# Altium schematic symbol library majestic_LibAltium.SchLib: 368 symbols (part 3 of 3)
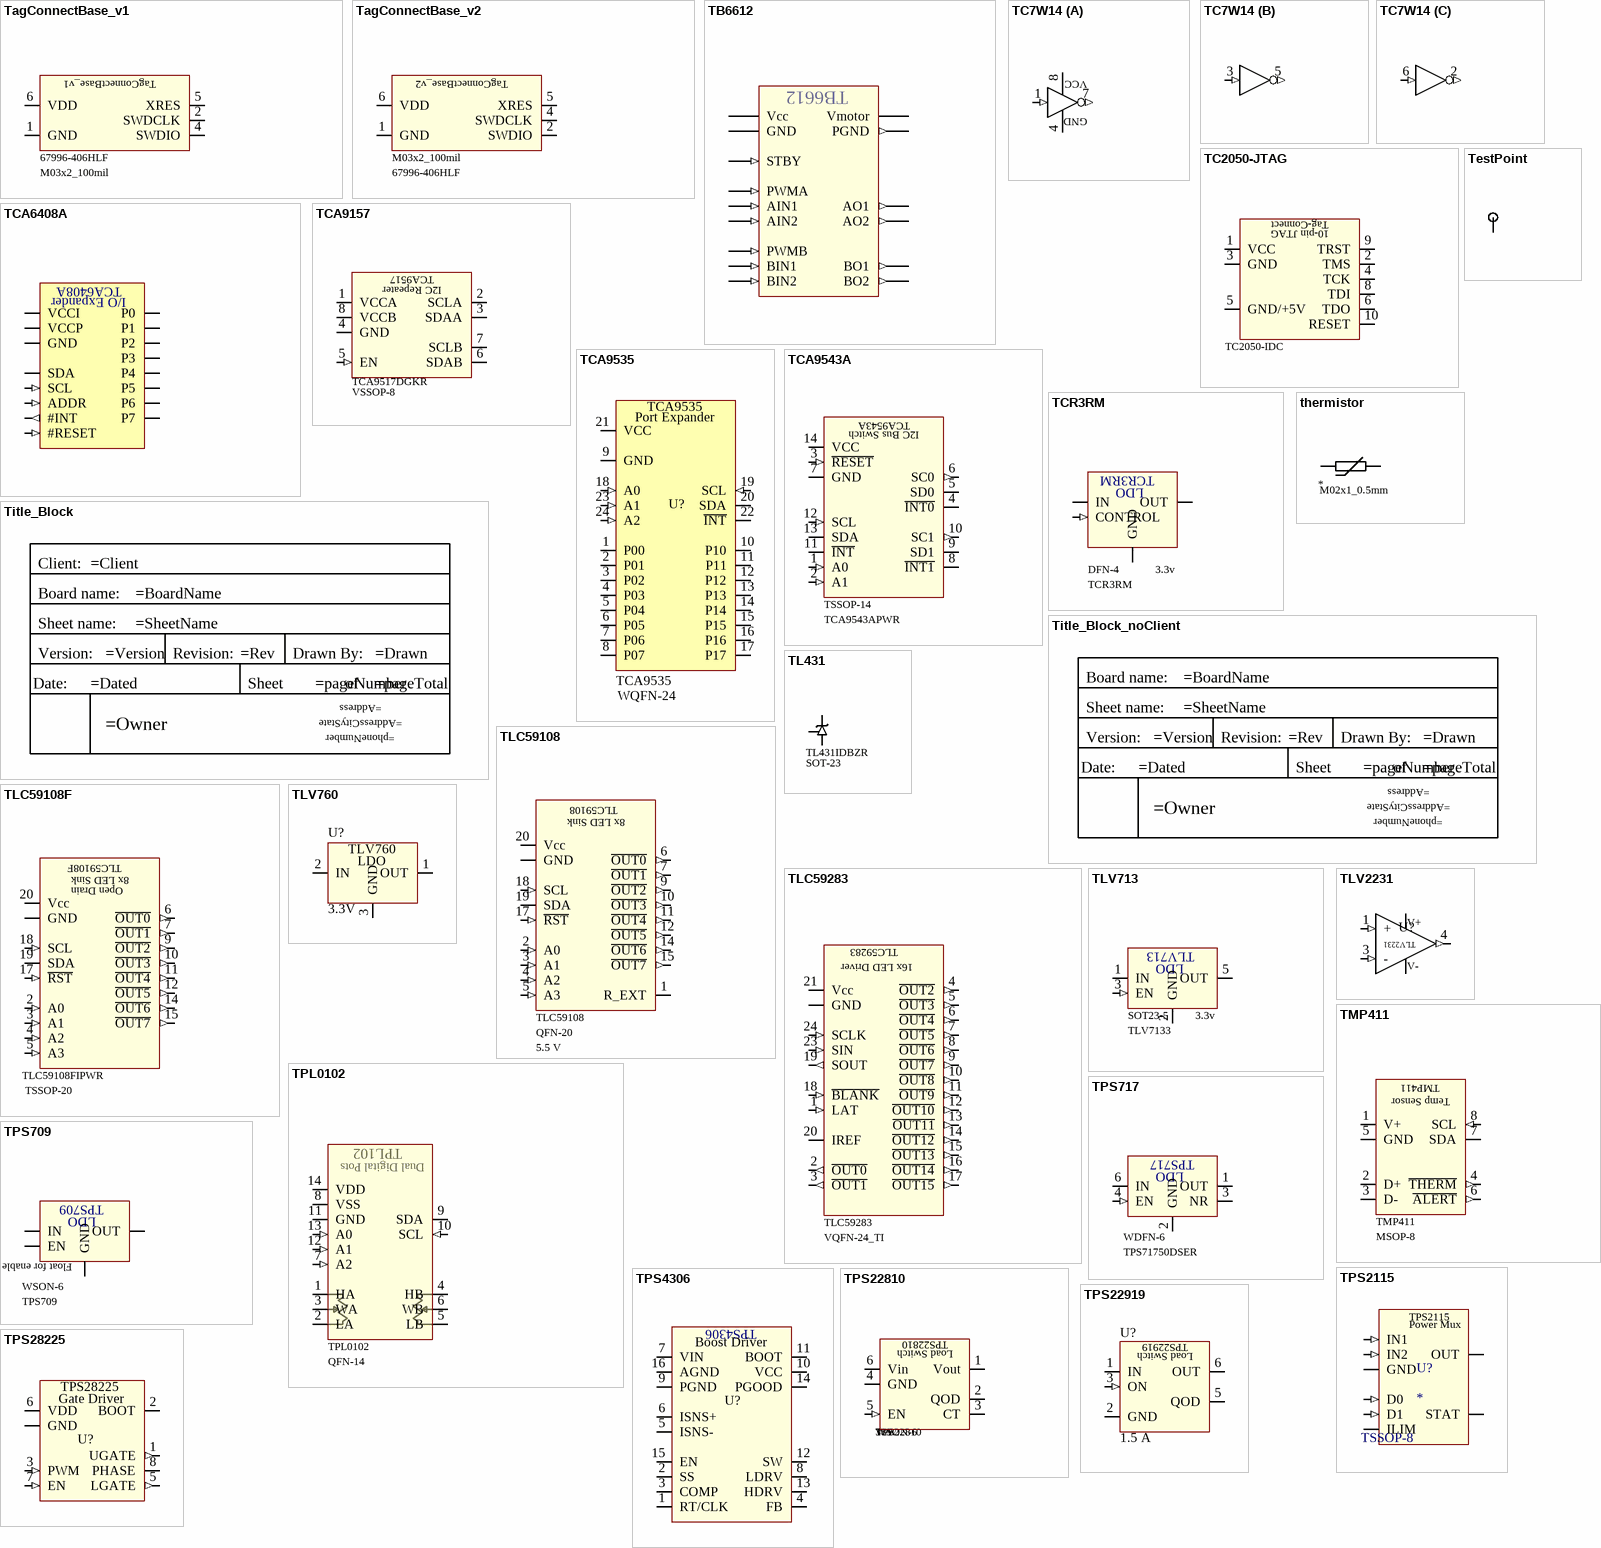
[diagram p15: symbols TagConnectBase_v1 to TPS28225]

## TPL0102
designator U?  PartNumber: TPL0102
Dual Digital Potentiometer
footprint QFN-14
pins: 1 HA, 2 LA, 3 WA, 4 HB, 5 LB, 6 WB, 7 A2 (in), 8 VSS (power), 9 SDA (io), 10 SCL (in), 11 GND, 12 A1 (in), 13 A0 (in), 14 VDD (power)
text: TPL102; Dual Digital Pots

## TPS709
designator u?  partNumber: TPS709
+5v LDO, 30v in; Vout: 5v; Imax: 150 mA; Vmax: 30v
footprint WSON-6
pins: 0 DAP (power), 1 OUT (power), 3 GND (power), 4 EN, 6 IN (power)
text: LDO; Float for enable

## TPS717
designator U?  PartNumber: TPS71750DSER
5.0v Linear Regulator
footprint WDFN-6
pins: 1 OUT (power), 2 GND (power), 3 NR, 4 EN (in), 6 IN (power)
text: LDO

## TPS2115
designator U?
Autoswitching power mux; PartNumber: TPS2115A
footprint TSSOP-8
pins: 1 STAT, 2 D0 (in), 3 D1 (in), 4 ILIM, 5 GND (power), 6 IN2 (in), 7 OUT (power), 8 IN1 (in)
text: Power Mux

## TPS4306
designator U?  (value not drawn)
Synchronous Boost DC-DC Controller; Voltage Rating: 4.5V ~ 38V; partNumber: *; roomCode: *
footprint WFQFN-16
pins: 0 GND, 1 RT/CLK, 2 SS, 3 COMP, 4 FB, 5 ISNS-, 6 ISNS+, 7 VIN, 8 LDRV, 9 PGND, 10 VCC, 11 BOOT, 12 SW, 13 HDRV, 14 PGOOD, 15 EN, 16 AGND
text: Boost Driver

## TPS22810
designator U?  Voltage Rating: 18 V  partNumber: TPS22810  Current Rating: 3 A
Load Switch, high side; Value: *
footprint WSON-6
pins: 0 DAP (power), 1 Vout (power), 2 QOD, 3 CT, 4 GND (power), 5 EN (in), 6 Vin (power)
text: Load Switch

## TPS22919
designator U?  Current Rating: 1.5 A  (hidden comment: *)
High Side Load Switch; partNumber: TPS22919DCKR; Voltage Rating: 5.5 V; roomCode: *
footprint SOT-363
pins: 1 IN (power), 2 GND (power), 3 ON (in), 5 QOD, 6 OUT (power)
text: Load Switch

## TPS28225
designator U?  (value not drawn)
Gate Driver; partNumber: TPS28225DRBR; Voltage Rating: 8.5 V; Current Rating: 4 A; roomCode: *
footprint VSON-8_3x3
pins: 0 EPAD (power), 1 UGATE (out), 2 BOOT, 3 PWM (in), 4 GND (power), 5 LGATE (out), 6 VDD (power), 7 EN (in), 8 PHASE

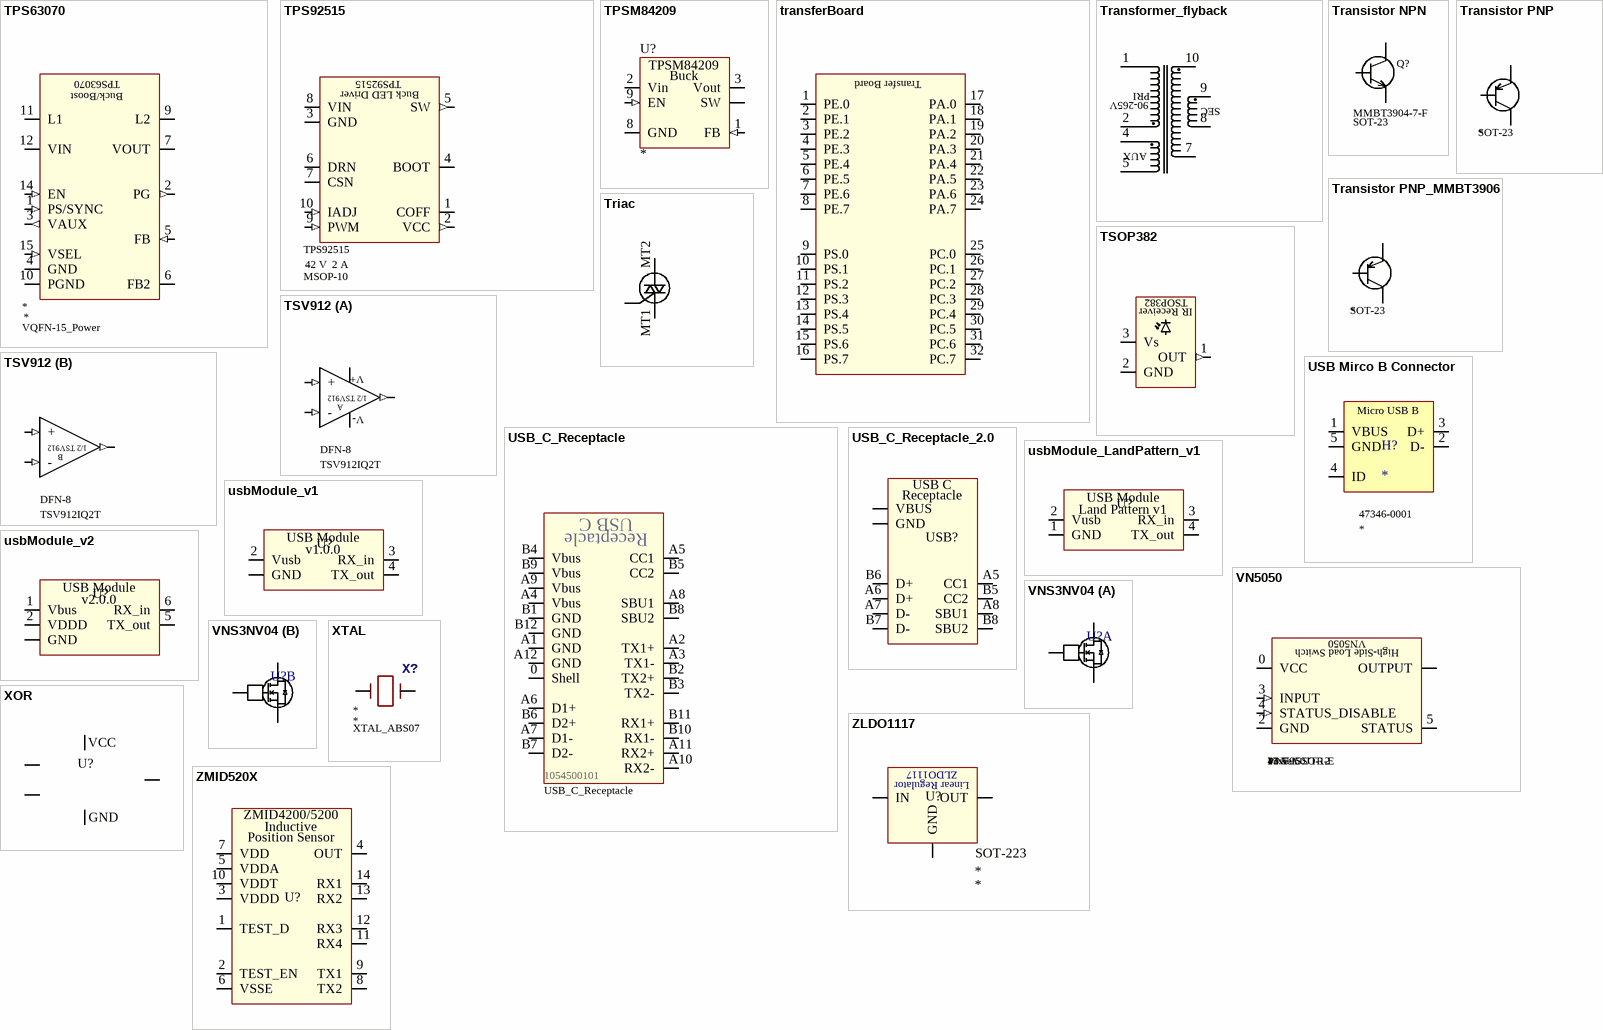
[diagram p13: symbols TPS63070 to ZMID520X]

## TPS63070
designator U?
Buck-Boost; Current Rating: 2A; Voltage Rating: 16V; partNumber: *; Value: *
footprint VQFN-15_Power
pins: 1 PS/SYNC (in), 2 PG (out), 3 VAUX (out), 4 GND (power), 5 FB (in), 6 FB2, 7 VOUT (power), 9 L2 (power), 10 PGND (power), 11 L1 (power), 12 VIN (power), 14 EN (in), 15 VSEL (in)
text: Buck/Boost

## TPS92515
designator U?  Voltage Rating: 42 V  Current Rating: 2 A  partNumber: TPS92515
Buck LED Driver; Value: *
footprint MSOP-10
pins: 0 Thermal (power), 1 COFF, 2 VCC (out), 3 GND (power), 4 BOOT, 5 SW (out), 6 DRN, 7 CSN, 8 VIN (power), 9 PWM (in), 10 IADJ (in)

## TPSM84209
designator U?
Power Module; partNumber: TPSM84209; Voltage Rating: 4.5 - 28 V; Current Rating: 2.5 A; roomCode: *; Value: *
footprint QFN-9_TPSM84209
pins: 1 FB (in), 2 Vin (power), 3 Vout (power), 4 SW (power), 5 SW (power), 8 GND (power), 9 EN (in)
text: Buck

## transferBoard
designator T?
MICA Transfer Board; Current Rating: *; partNumber: *; Voltage Rating: *
footprint transferBoard
pins: 1 PE.0 (power), 2 PE.1 (power), 3 PE.2 (power), 4 PE.3 (power), 5 PE.4 (power), 6 PE.5 (power), 7 PE.6 (power), 8 PE.7 (power), 9 PS.0 (power), 10 PS.1 (power), 11 PS.2 (power), 12 PS.3 (power), 13 PS.4 (power), 14 PS.5 (power), 15 PS.6 (power), 16 PS.7 (power), 17 PA.0 (power), 18 PA.1 (power), 19 PA.2 (power), 20 PA.3 (power), 21 PA.4 (power), 22 PA.5 (power), 23 PA.6 (power), 24 PA.7 (power), 25 PC.0 (power), 26 PC.1 (power), 27 PC.2 (power), 28 PC.3 (power), 29 PC.4 (power), 30 PC.5 (power), 31 PC.6 (power), 32 PC.7 (power)
text: Transfer Board

## Transformer_flyback
designator T?, comment Transformer
footprint TRANSFORMER_FLYBACK_750813
pins: 1, 2, 4, 5, 7, 8, 9, 10
text: PRI; 90-265V; SEC; AUX

## Transistor NPN
designator Q?  partNumber: MMBT3904-7-F
Bipolar Junction Transistor; Voltage Rating: 40 V; Current Rating: 200 mA
footprint SOT-23; pin to pad B>1 C>3 E>2
pins: B Base, C Collector, E Emitter

## Transistor PNP
designator Q?
Bipolar Juntion Transistor; Voltage Rating: *; Current Rating: *; partNumber: *
footprint SOT-23; pin to pad B>2 C>3 E>1
pins: B Base, C Collector, E Emitter

## Transistor PNP_MMBT3906
designator Q?
Bipolar Juntion Transistor; Voltage Rating: *; Current Rating: *; partNumber: *
footprint SOT-23; pin to pad B>1 C>3 E>2
pins: B Base, C Collector, E Emitter

## Triac
designator T?
footprint TO-220; pin to pad G>3 MT1>1 MT2>2
footprint D2PAK; pin to pad G>3 MT1>1 MT2>2
pins: G Gate, MT1, MT2

## TSOP382
designator U?
IR Receiver Module; partNumber: TSOP382; Value: 940 nm
pins: 1 OUT (out), 2 GND (power), 3 Vs (power)
text: IR Receiver

## TSV912
designator U?  PartNumber: TSV912IQ2T
Op-amp  Dual, Rail to Rail; Voltage Rating: 6 V; Current Rating: 35 mA; GBP: 8 MHz; Vmin: 2.5 V
footprint DFN-8
part A pins: 1 Out1 (out), 2 - (in), 3 + (in), 4 V- (power), 8 V+ (power), 9 PAD (power)
part B pins: 5 + (in), 6 - (in), 7 Out2 (out)
part A text: 1/2 TSV912; A
part B text: 1/2 TSV912; B

## USB Mirco B Connector
designator H?
Micro USB; Current Rating: *; partNumber: *
footprint 47346-0001
footprint USB_Micro_B_Throughhole
footprint usbMicro_10118193-0001LF
pins: 1 VBUS (power), 2 D- (io), 3 D+ (io), 4 ID, 5 GND (power)
text: Micro USB B

## USB_C_Receptacle
designator USB?  PartNumber: 1054500101
Type C reversible connector; Room Code: *; Voltage Rating: *; Current Rating: *
footprint USB_C_Receptacle
footprint USB_C_MOLEX_RECEPTACLE (Part no. 1054500101)
pins: 0 Shell, A1 GND (power), A2 TX1+ (io), A3 TX1- (io), A4 Vbus (power), A5 CC1 (power), A6 D1+ (io), A7 D1- (io), A8 SBU1 (io), A9 Vbus (power), A10 RX2- (io), A11 RX2+ (io), A12 GND (power), B1 GND (power), B2 TX2+ (io), B3 TX2- (io), B4 Vbus (power), B5 CC2 (power), B6 D2+ (io), B7 D2- (io), B8 SBU2 (io), B9 Vbus (power), B10 RX1- (io), B11 RX1+ (io), B12 GND (power)
text: USB C; Receptacle

## USB_C_Receptacle_2.0
designator USB?  (value not drawn)
USB 2.0 Type C Connector; partNumber: 2130830005; Voltage Rating: 30V; Current Rating: 5A; roomCode: *
footprint USBC_2130830005
footprint USB_C_USB4151-GF-C (Part no. 1054500101)
footprint USB_C_DX07S024
footprint USB_C_12402056E512A
pins: 0 CASE, A1 GND, A4 VBUS, A5 CC1, A6 D+, A7 D-, A8 SBU1, A9 VBUS, A12 GND, B1 GND, B4 VBUS, B5 CC2, B6 D+, B7 D-, B8 SBU2, B9 VBUS, B12 GND
text: USB C; Receptacle

## usbModule_LandPattern_v1
designator U?  (value not drawn)  (no BOM)
Land Pattern for USB-C, Serial bridge, and power filter; partNumber: *; Voltage Rating: *; Current Rating: *; roomCode: *
footprint usbModule_LandPattern_v1
pins: 1 GND (power), 2 Vusb (power), 3 RX_in (power), 4 TX_out (power)
text: USB Module; Land Pattern v1

## usbModule_v1
designator U?  (value not drawn)
USB-C, filter, diode, and serial port; partNumber: *; Voltage Rating: *; Current Rating: *; roomCode: *
footprint usbModule_v1
pins: 0 GND, 1 GND (power), 2 Vusb (power), 3 RX_in (power), 4 TX_out (power)
text: USB Module; v1.0.0

## usbModule_v2
designator U?  (value not drawn)
USB-C, filter, diode, and serial port; partNumber: *; Voltage Rating: *; Current Rating: *; roomCode: *
footprint USBMODULE_V2
pins: 1 Vbus (power), 2 VDDD (power), 3 GND (power), 4 GND, 5 TX_out (power), 6 RX_in (power)
text: USB Module; v2.0.0

## VN5050
designator U?  Voltage Rating: 41 V  partNumber: VN5050JTR-E  Current Rating: 13.5 A
Load Switch - High Side
footprint PowerSSO-12
pins: 0 VCC (power), 2 GND (power), 3 INPUT (in), 4 STATUS_DISABLE (in), 5 STATUS (oc), 8 OUTPUT (power), 9 OUTPUT (power), 10 OUTPUT (power), 11 OUTPUT (power)
text: High-Side Load Switch

## VNS3NV04
designator U?  (value not drawn)
Protected MOSFET; partNumber: VNS3NV04DPTR-E; Voltage Rating: 40 V; Current Rating: 3.5 A; roomCode: *
footprint SOIC-8; pin to pad D1A>7 D1B>8 D2A>5 D2B>6 G1>2 G2>4 S1>1 S2>3
part A pins: D1A D, D1B D, G1 G, S1 S (power)
part B pins: D2A D, D2B D, G2 G, S2 S (power)

## XOR
designator U?  (value not drawn)
Exclusive-OR Gate; partNumber: *; Voltage Rating: *; Current Rating: *; roomCode: *
footprint SOT753
pins: 1 B, 2 A, 3 GND, 4 Y, 5 VCC

## XTAL
designator X?
Crystal oscillator; Tolerance: *; Value: *; partNumber: *
footprint XTAL_ABS07
footprint ABS05
footprint xtal_th-HC-46x (ECS)
pins: 1, 2

## ZLDO1117
designator U?
IC REG LINEAR 3.3V 1A; partNumber: *; roomCode: *; Parameter 1: *; Voltage Rating: *; Current Output: *; Voltage Output: *
footprint SOT-223
pins: 1 GND (power), 2 OUT (power), 3 IN (power), 4 OUT (power)
text: Linear Regulator

## ZMID520X
designator U?  (value not drawn)
Inductive Position Sensor; partNumber: *; Voltage Rating: *; Current Rating: *; roomCode: *
footprint TSSOP-14
pins: 1 TEST_D "Factory test pin; must be left unconnected.", 2 TEST_EN "Factory test pin. Connect to the VSSE pin.", 3 VDDD (power) "Internal regulated digital supply voltage. Connect capacitor CVD = 100nF from the VDDD pin  to the VSSE pin, no other load.", 4 OUT (io) "Analog, PWM, or SENT output depending on model. Digital One-Wire Interface (OWI) used during programming.", 5 VDDA  (power) "Internal regulated analog supply voltage. Connect CVA = 100nF from the VDDA pin to the  VSSE pin; no other load", 6 VSSE (power), 7 VDD (power) "External supply voltage. Connect the VDDE pin to CVE = 100nF capacitor in parallel with a  1pF to 10pF capacitor connected to the VSSE pin.", 8 TX2, 9 TX1, 10 VDDT (power), 11 RX4, 12 RX3, 13 RX2, 14 RX1
text: ZMID4200/5200; Inductive; Position Sensor